# Altium schematic symbol library Components - 11.11.21 - 18.59.SchLib: 1 symbol
Pins are listed as number, name and electrical type; pins without a type are passive.

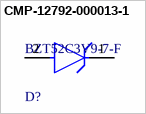
[diagram p0: symbol CMP-12792-000013-1]

## CMP-12792-000013-1
designator D?, comment BZT52C3V9-7-F
DIODE ZENER 3.9V 500MW SOD123; Manufacturer: Diodes; Reverse Voltage: 1V; Max Reverse Leakage Current: 3uA; Max Junction Temp: +150°C; Standoff Height: 0mm; Zener Impedance: 90Ω; Max Zener Voltage: 4.1V; Power Dissipation: 370mW; Forward Current: 10mA; Height: 1.45mm; Ipc Land Pattern Name: SOD365155X123-2; Temperature Range Low: -65°C; Category: Diode; Lead Free: Yes; Automotive: No; Device Class L3: Zener Diodes; Manufacturer Part Number: BZT52C3V9-7-F; Temperature Range High: +150°C; Temperature: -65°C to +150°C; RoHS: TRUE; ComponentLink2URL: https://www.diodes.com/assets/Datasheets/ds18004.pdf; Device Class L2: Diodes; ComponentLink2Description: Datasheet; Digikey Description: DIODE ZENER 3.9V 500MW SOD123; Package: SOD123; Device Class L1: Discrete Semiconductors; Nom Zener Voltage: 3.9V; Octopart: https://octopart.com/bzt52c3v9-7-f-diodes+inc.-326686; Mouser Description: Zener Diodes 3.9V 500mW; Footprint Url: https://www.diodes.com/assets/Package-Files/SOD123.pdf
footprint FP-SOD123-IPC_B
footprint FP-SOD123-IPC_A
footprint FP-SOD123-IPC_C
footprint FP-SOD123-MFG
pins: 1 C, 2 A